# Altium footprint library S3B-XH-A.PcbLib: 1 footprints
Each footprint in its own frame and in the unit in brackets; x right, y up, seen from the top. Pads: shape width x height; smd on the part's side, far side on the other; paste and mask are expansions set on the pad; w line width, h text height; cw(c..) or ccw(c..) is an arc to the next point about the centre after c.
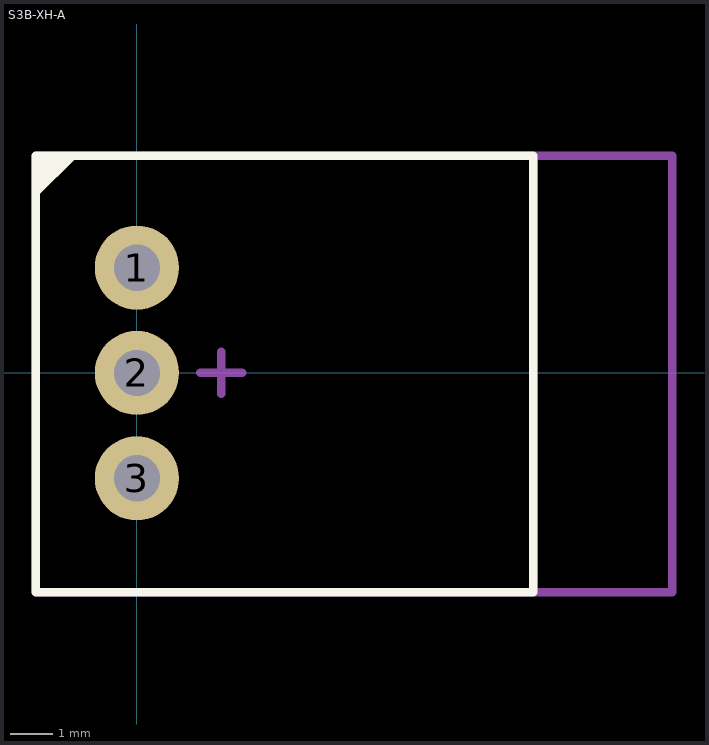
[diagram p0: the footprint, top view; thin cyan lines are the x and y axes]

## S3B-XH-A [mm] "2.5mm 3 pin male"
height 6
pads (3):
  round 2 hole 1.1: 1(0,2.5) 2(0,0) 3(0,-2.5)
Top Overlay:
  region: -2.35,5.1 -2.35,4.2 -1.45,5.1
  lines w0.2: -2.4,-5.2 -2.4,5.15 9.4,5.15 9.4,-5.2 -2.4,-5.2
Top Assembly:
  lines w0.2: -2.4,-5.2 9.4,-5.2 9.4,5.15 -2.4,5.15 -2.4,-5.2
Top Courtyard:
  lines w0.2: -2.4,-5.2 12.7,-5.2 12.7,5.15 -2.4,5.15 -2.4,-5.2
Top Component Center:
  lines w0.2: 1.5,0 2.5,0 ; 2,-0.5 2,0.5
3D body "XHP-3--3DModel-STEP-1.STEP": height 6.05, standoff 0.35, extent 4,-4.9 11.75,4.9
3D body "S3B-XH-A--3DModel-STEP-56544.STEP": height 6.1, standoff -3.4, extent -2.1,-4.95 9.4,4.95